# Altium schematic symbol library EMG_Sensor.SchLib: 18 symbols
Pins are listed as number, name and electrical type; pins without a type are passive.

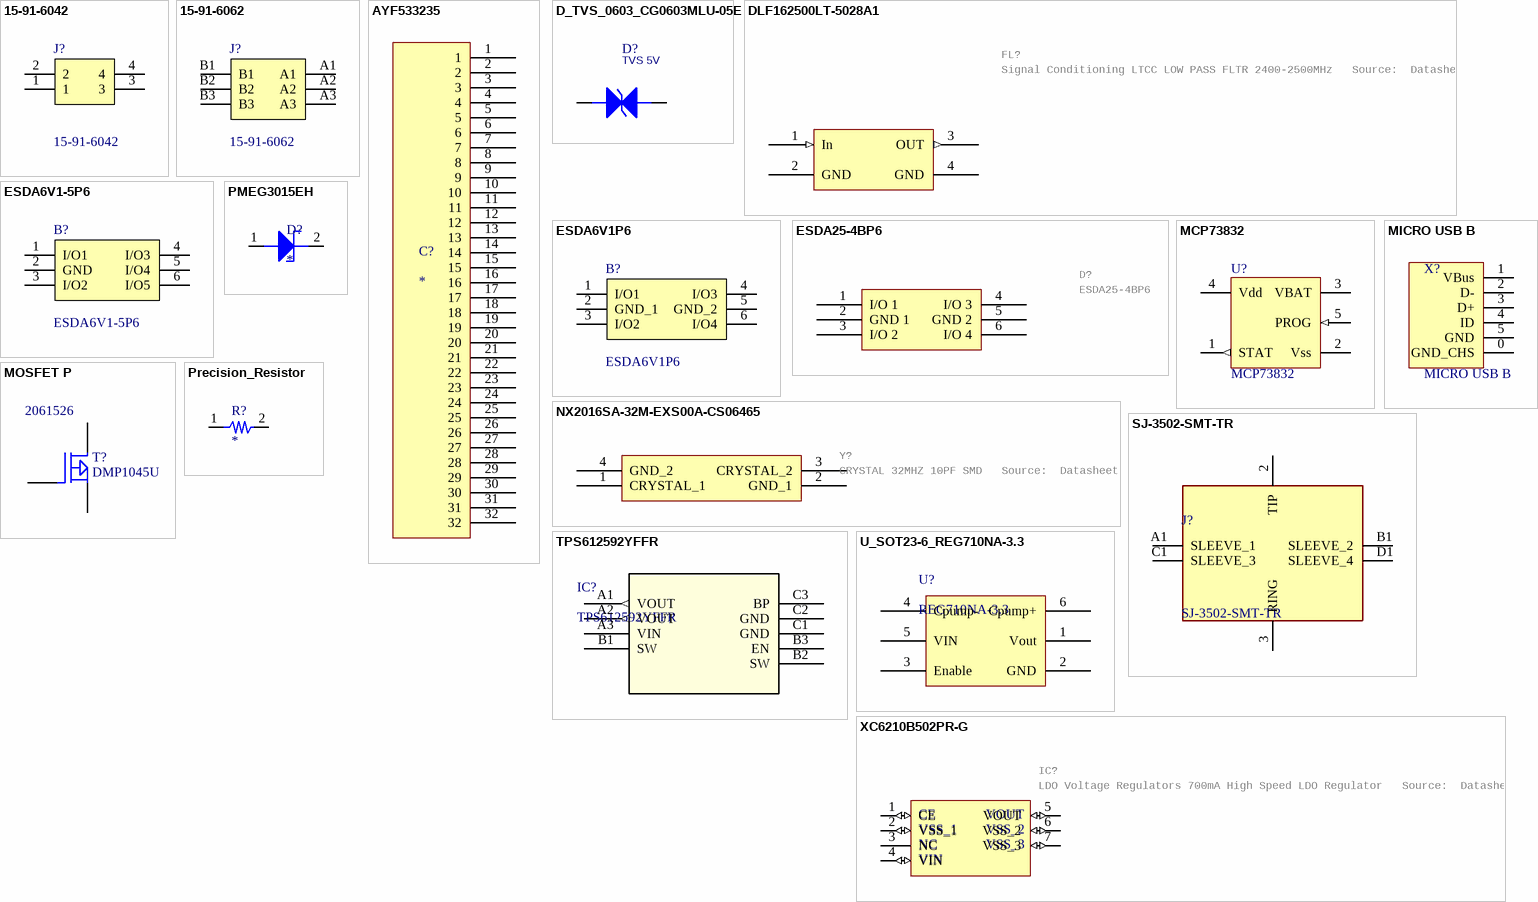
[diagram p0: symbols 15-91-6042 to XC6210B502PR-G]

## 15-91-6042
designator J?
2.54mm Pitch SL Wire-to-Board Header, Low Profile, Surface Mount, Single Row, Right-Angle, 3.05mm Pocket, Shrouded, with Press-fit Plastic Peg,  Circuits, Tin (Sn) Plating, Embossed Tape Packaging; Manufacturer_Name: Molex; Geometry.Height: 11.69mm; Manufacturer_Part_Number: 15-91-6042; Mouser Part Number: 538-15-91-6042; Mouser Price/Stock: https://www.mouser.co.uk/ProductDetail/Molex/15-91-6042?qs=3DzawVMofg8HeBuyct9LCA%3D%3D; Arrow Part Number: *; Arrow Price/Stock: *; Datasheet Link: https://componentsearchengine.com/Datasheets/1/15-91-6042.pdf
footprint 15916042
pins: 1, 2, 3, 4

## 15-91-6062
designator J?
2.54mm Pitch SL Wire-to-Board Header, Low Profile, Surface Mount, Single Row, Right-Angle, 3.05mm Pocket, Shrouded, with Press-fit Plastic Peg,  Circuits, Tin (Sn) Plating, Embossed Tape Packaging; Manufacturer_Name: Molex; Geometry.Height: 9.91mm; Manufacturer_Part_Number: 15-91-6062; Mouser Part Number: 538-15-91-6062; Mouser Price/Stock: https://www.mouser.co.uk/ProductDetail/Molex/15-91-6062?qs=Wx%252BBqzKDvcssfuSpK%2FN0NQ%3D%3D; Arrow Part Number: *; Arrow Price/Stock: *; Datasheet Link: https://www.molex.com/content/dam/molex/molex-dot-com/products/automated/en-us/salesdrawingpdf/713/71308/015916062_sd.pdf
footprint 15916062
pins: A1, A2, A3, B1, B2, B3

## AYF533235
designator C?
footprint AYF533235
pins: 1, 2, 3, 4, 5, 6, 7, 8, 9, 10, 11, 12, 13, 14, 15, 16, 17, 18, 19, 20, 21, 22, 23, 24, 25, 26, 27, 28, 29, 30, 31, 32

## D_TVS_0603_CG0603MLU-05E
designator D?, comment TVS 5V
ESD-Entstörer/TVS-Dioden CHIP GUARD 5VOLT; Supplier 1 No: 652-CG0603MLU-05E; Supplier 1: Mouser
footprint C-1608 [0603]-N (Chip Capacitor, 2-Leads, Body 1,60x0,80mm, IPC Medium Density)
pins: 1 CATHODE, 2 ANODE

## DLF162500LT-5028A1
designator FL?, comment Signal Conditioning LTCC LOW PASS FLTR 2400-2500MHz   Source:  Datasheet
Manufacturer_Name: TDK; Manufacturer_Part_Number: DLF162500LT-5028A1; Mouser_Part_Number: 810-DLF16250LT5028A1; Mouser_Price-Stock: https://www.mouser.co.uk/ProductDetail/TDK/DLF162500LT-5028A1?qs=U%2FZX79kHR%2FlwIbAISCs3qA%3D%3D; Arrow_Part_Number: DLF162500LT-5028A1; Arrow_Price-Stock: https://www.arrow.com/en/products/dlf162500lt-5028a1/tdk?region=nac; Height: 0.4mm
footprint DLF162500LT5028A1
pins: 1 In (in), 2 GND, 3 OUT (out), 4 GND

## ESDA6V1-5P6
designator B?
5 line ESD protection, 6.1 V VBR, in SOT666; Manufacturer_Name: STMicroelectronics; Geometry.Height: 0.62mm; Manufacturer_Part_Number: ESDA6V1-5P6; Mouser Part Number: 511-ESDA6V1-5P6; Mouser Price/Stock: https://www.mouser.co.uk/ProductDetail/STMicroelectronics/ESDA6V1-5P6?qs=at%2FPaO0D8JbsyvB5MtIioA%3D%3D; Arrow Part Number: ESDA6V1-5P6; Arrow Price/Stock: https://www.arrow.com/en/products/esda6v1-5p6/stmicroelectronics?region=nac; Datasheet Link: https://www.st.com/resource/en/datasheet/esda14v2bp6.pdf
footprint ESDA6V15P6
pins: 1 I/O1, 2 GND, 3 I/O2, 4 I/O3, 5 I/O4, 6 I/O5

## ESDA6V1P6
designator B?
4 line ESD protection, 6.1 V VBR, in SOT666; Manufacturer_Name: STMicroelectronics; Geometry.Height: 0.62mm; Manufacturer_Part_Number: ESDA6V1P6; Mouser Part Number: 511-ESDA6V1P6; Mouser Price/Stock: https://www.mouser.co.uk/ProductDetail/STMicroelectronics/ESDA6V1P6?qs=ewe0KQ%2FSs5H0%252BSAub%2FR2ag%3D%3D; Arrow Part Number: ESDA6V1P6; Arrow Price/Stock: https://www.arrow.com/en/products/esda6v1p6/stmicroelectronics?region=nac; Datasheet Link: https://www.st.com/resource/en/datasheet/esda14v2bp6.pdf
footprint ESDA6V1P6
pins: 1 I/O1, 2 GND_1, 3 I/O2, 4 I/O3, 5 GND_2, 6 I/O4

## ESDA25-4BP6
designator D?
4 line ESD protection, 25 V VBR, in SOT666   Source:  Datasheet; Manufacturer_Name: STMicroelectronics; Manufacturer_Part_Number: ESDA25-4BP6; Mouser_Part_Number: 511-ESDA25-4BP6; Mouser_Price-Stock: https://www.mouser.co.uk/ProductDetail/STMicroelectronics/ESDA25-4BP6?qs=eU2TTeT5rM2nsce5WrpgTg%3D%3D; Arrow_Part_Number: ESDA25-4BP6; Arrow_Price-Stock: https://www.arrow.com/en/products/esda25-4bp6/stmicroelectronics?region=nac; Height: 0.62mm; Supplier 1: Mouser; Supplier Part Number 1: 511-ESDA25-4BP6
footprint ESDA254BP6
pins: 1 I/O 1, 2 GND 1, 3 I/O 2, 4 I/O 3, 5 GND 2, 6 I/O 4

## MCP73832
designator U?
Supplier 1: Mouser; Supplier Part Number 1: 579-MCP73832T-2ACIOT
footprint SOT95P280X145-5N (SOT23, 5-Leads, Body 2,90x2,80mm, Pitch 0,95mm, IPC Medium Density)
pins: 1 STAT (out), 2 Vss (power), 3 VBAT (power), 4 Vdd (power), 5 PROG (in)

## MICRO USB B
designator X?
MICRO USB B Molex; Supplier 1: Mouser; Supplier Part Number 1: 538-47346-0001
footprint Micro USB B (Micro USB B Molex 47346-0001)
pins: 0 GND_CHS, 1 VBus, 2 D-, 3 D+, 4 ID, 5 GND

## MOSFET P
designator T?, comment DMP1045U  Supplier Part Number 1: 2061526
Mouser-Nr.:621-DMP1045U-7; Supplier 1: Farnell
footprint SOT-23-3-PMOS
pins: 1 G, 2 D, 3 S

## NX2016SA-32M-EXS00A-CS06465
designator Y?, comment CRYSTAL 32MHZ 10PF SMD   Source:  Datasheet
Manufacturer_Name: NDK; GateName_1: G$1; SymbolName_1: NX2016SA-32M-EXS00A-CS06465; LibraryName: NX2016SA-32M-EXS00A-CS06465; DeviceSetName: NX2016SA-32M-EXS00A-CS06465; Package: NX2016SA32MEXS00ACS06465; Manufacturer_Part_Number: NX2016SA-32M-EXS00A-CS06465; Mouser_Part_Number: 344-NX2016SA32S06465; Mouser_Price-Stock: https://www.mouser.co.uk/ProductDetail/NDK/NX2016SA-32M-EXS00A-CS06465?qs=w%2Fv1CP2dgqr82b0JjRnv4A%3D%3D; Height: 0.5mm
footprint NX2016SA32MEXS00ACS06465
pins: 1 CRYSTAL_1, 2 GND_1, 3 CRYSTAL_2, 4 GND_2

## PMEG3015EH
designator D?
footprint SOD-123-D
pins: 1, 2

## Precision_Resistor
designator R?
Expensive: P2TC0603D1003LNTA - 0.01% Cheap: TNPU0603100KAYEN00 - 0.05%; Supplier 1: Rs; Supplier Part Number 1: 2182743P; Supplier 2: Arrow Electronics; Supplier Part Number 2: TNPU0603100KAYEN00
footprint R-1608 [0603]-M (Chip Resistor, 2-Leads, Body 1,60x0,83mm, IPC Low Density)
pins: 1 9, 2 10

## SJ-3502-SMT-TR
designator J?
Phone Connectors Audio Jacks; Manufacturer_Name: CUI Devices; Geometry.Height: 4.6mm; Manufacturer_Part_Number: SJ-3502-SMT-TR; Mouser Part Number: 490-SJ-3502-SMT-TR; Mouser Price/Stock: https://www.mouser.co.uk/ProductDetail/CUI-Devices/SJ-3502-SMT-TR?qs=WyjlAZoYn53BnW6I7ND97Q%3D%3D; Arrow Part Number: SJ-3502-SMT-TR; Arrow Price/Stock: https://www.arrow.com/en/products/sj-3502-smt-tr/cui-devices; Datasheet Link: https://www.cuidevices.com/product/resource/sj-3502-smt-tr.pdf
footprint SJ3502SMTTR
pins: 2 TIP, 3 RING, A1 SLEEVE_1, B1 SLEEVE_2, C1 SLEEVE_3, D1 SLEEVE_4

## TPS612592YFFR
designator IC?
No Description Available; Mfr_Name: Texas Instruments; Copyright: Copyright (C) 2024 Ultra Librarian. All rights reserved.; Manufacturer_Part_Number: TPS612592YFFR; RefDes: RefDes; Type: DEV
footprint DSBGA09_1P206X1P306_TEX
pins: A1 VOUT (out), A2 VOUT (out), A3 VIN, B1 SW, B2 SW, B3 EN, C1 GND (power), C2 GND (power), C3 BP

## U_SOT23-6_REG710NA-3.3
designator U?, comment REG710NA-3.3
Schaltspannungsregler 30-mA Switched-Cap DC-DC Converter, Buck-Boost, Vout = 3.3V; Supplier 1: Mouser; Supplier Part Number 1: 595-REG710NA-3.3/3K
footprint SOT-23/6
pins: 1 Vout, 2 GND, 3 Enable, 4 Cpump-, 5 VIN, 6 Cpump+

## XC6210B502PR-G
designator IC?, comment LDO Voltage Regulators 700mA High Speed LDO Regulator   Source:  Datasheet
Manufacturer_Name: Torex; GateName_1: G$1; SymbolName_1: XC6210B502PR-G; LibraryName: XC6210B502PR-G; DeviceSetName: XC6210B502PR-G; Package: XC6210B502PRG; Mouser_Part_Number: 865-XC6210B502PR-G; Mouser_Price-Stock: https://www.mouser.co.uk/ProductDetail/Torex-Semiconductor/XC6210B502PR-G?qs=AsjdqWjXhJ8XXo5wZ7cEHQ%3D%3D; Manufacturer_Part_Number: XC6210B502PR-G; Height: 1.6mm
footprint XC6210B502PRG
pins: 1 CE (io), 2 VSS_1 (io), 3 NC, 4 VIN (io), 5 VOUT (io), 6 VSS_2 (io), 7 VSS_3 (io)